# Altium schematic symbol library THS4532.SchLib: 1 symbol
Pins are listed as number, name and electrical type; pins without a type are passive.

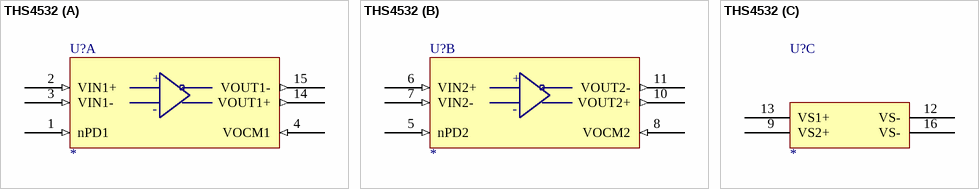
[diagram p0: symbol THS4532]

## THS4532
designator U?
part A pins: 1 nPD1 (in), 2 VIN1+ (in), 3 VIN1- (in), 4 VOCM1 (in), 14 VOUT1+ (out), 15 VOUT1- (out)
part B pins: 5 nPD2 (in), 6 VIN2+ (in), 7 VIN2- (in), 8 VOCM2 (in), 10 VOUT2+ (out), 11 VOUT2- (out)
part C pins: 9 VS2+ (power), 12 VS- (power), 13 VS1+ (power), 16 VS- (power)
part A text: +; -
part B text: +; -